# Altium schematic symbol library LED-4.SchLib: 1 symbol
Pins are listed as number, name and electrical type; pins without a type are passive.

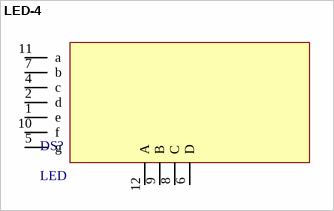
[diagram p0: symbol LED-4]

## LED-4
designator DS?, comment LED
DS: LED-4
footprint LED-4 - duplicate
pins: 1 e, 2 d, 4 c, 5 g, 6 D, 7 b, 8 C, 9 B, 10 f, 11 a, 12 A